# Altium schematic symbol library PCB_Project1.SCHLIB: 6 symbols
Pins are listed as number, name and electrical type; pins without a type are passive.

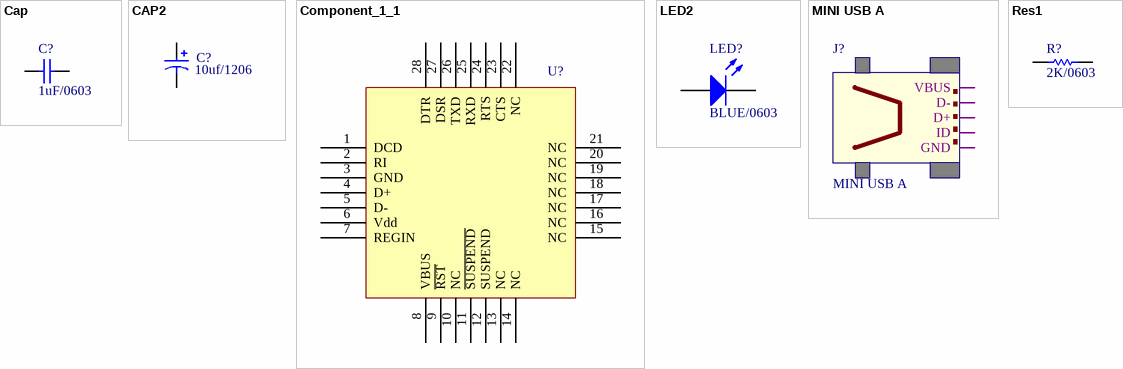
[diagram p0: symbols Cap to Res1]

## Cap
designator C?, comment 1uF/0603
Capacitor; Value: 100pF; Published: 8-Jun-2000; LatestRevisionDate: 17-Jul-2002; LatestRevisionNote: Re-released for DXP Platform.; PackageReference: RAD-0.3; Publisher: Altium Limited
simulation model CAP (Capacitor)
signal-integrity model Cap
footprint C_0603
pins: 1, 2

## CAP2
designator C?, comment value 10uf/1206  (hidden comment: 10uF/10V)
Bi-Polar Capacitor
footprint C_1206
pins: 1, 2
2 alternate drawings of the same symbol

## Component_1_1
designator U?, comment CP2102  (value not drawn)
footprint CP2102 QFN (QFN, 28-Leads, Body 5.0x5.0mm (max), Pitch 0.50mm, IPC Medium Density)
pins: 1 DCD, 2 RI, 3 GND, 4 D+, 5 D-, 6 Vdd, 7 REGIN, 8 VBUS, 9 ~{RST}, 10 NC, 11 ~{SUSPEND}, 12 SUSPEND, 13 NC, 14 NC, 15 NC, 16 NC, 17 NC, 18 NC, 19 NC, 20 NC, 21 NC, 22 NC, 23 CTS, 24 RTS, 25 RXD, 26 TXD, 27 DSR, 28 DTR

## LED2
designator LED?, comment BLUE/0603
Typical RED, GREEN, YELLOW, AMBER GaAs LED; Published: 8-Jun-2000; LatestRevisionDate: 17-Jul-2002; LatestRevisionNote: Re-released for DXP Platform.; PackageDocument: Feb-2002; PackageReference: 3.2X1.6X1.1; Publisher: Altium Limited
simulation model LED2 (Diode)
footprint LED_0603
pins: 1 A, 2 K

## MINI USB A
designator J?
footprint MICRO USB DIP
pins: D+, D-, GND, ID, VBUS

## Res1
designator R?, comment 2K/0603
Resistor; Value: 1K; Published: 8-Jun-2000; LatestRevisionDate: 17-Jul-2002; LatestRevisionNote: Re-released for DXP Platform.; PackageReference: AXIAL-0.3; Publisher: Altium Limited
simulation model RESISTOR (Resistor)
signal-integrity model Res
footprint R_0603
pins: 1, 2